# Altium footprint library PCB - POWER INDUCTORS - TDK VLS252010HBX-1.PCBLIB: 1 footprints
Each footprint in its own frame and in the unit in brackets; x right, y up, seen from the top. Pads: shape width x height; smd on the part's side, far side on the other; paste and mask are expansions set on the pad; w line width, h text height; cw(c..) or ccw(c..) is an arc to the next point about the centre after c.
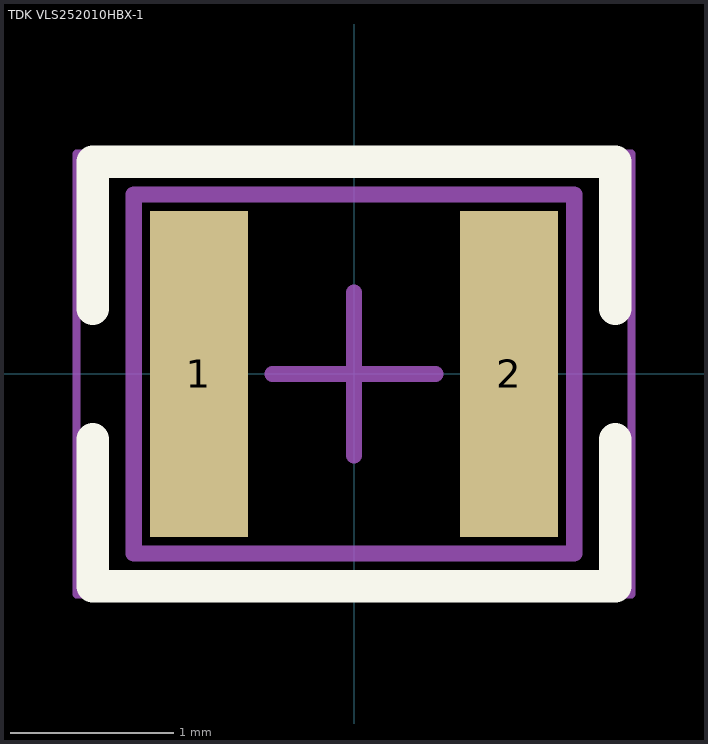
[diagram p0: the footprint, top view; thin cyan lines are the x and y axes]

## TDK VLS252010HBX-1 [mm] "Inductor, 2-Leads, Body 2.50x2.00mm, IPC Medium Density"
height 1
pads (2):
  rect 0.6x2 smd: 1(-0.95,0) 2(0.95,0)
Top Overlay:
  lines w0.2: -1.6,-0.4 -1.6,-1.3 1.6,-1.3 1.6,-0.4 ; -1.6,0.4 -1.6,1.3 1.6,1.3 1.6,0.4
Mechanical 13:
  lines w0.1: -1.35,-1.1 1.35,-1.1 1.35,1.1 -1.35,1.1 -1.35,-1.1
Mechanical 15:
  lines w0.05: -1.7,-1.35 1.7,-1.35 1.7,1.35 -1.7,1.35 -1.7,-1.35
  lines w0.1: -0.5,0 0.5,0 ; 0,-0.5 0,0.5
3D body "VLS252010HBX-1.STEP": height 1.2, standoff 0, extent -1.25,-1 1.25,1